# Altium schematic symbol library 3588-15.SchLib: 1 symbol
Pins are listed as number, name and electrical type; pins without a type are passive.

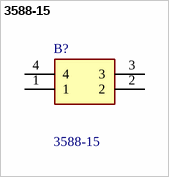
[diagram p0: symbol 3588-15]

## 3588-15
designator B?
Fuse Holder 20 A 500V 1 Circuit Blade Surface Mount; Manufacturer_Name: Keystone Electronics; Geometry.Height: 8.37mm; Mouser Part Number: 534-3588-15; Mouser Price/Stock: https://www.mouser.co.uk/ProductDetail/Keystone-Electronics/3588-15?qs=u16ybLDytRaSVK7r0YphMA%3D%3D; Manufacturer_Part_Number: 3588-15; Datasheet Link: http://www.keystoneelectronics.net/ENG._DEPT/WEB_ORACLE/PDF/PDF%20CAT%20NO%20DRAWINGS/3000-3999/3588-15.PDF
footprint 358815
pins: 1, 2, 3, 4